# EAGLE library part RFM02A (library RFMxx)
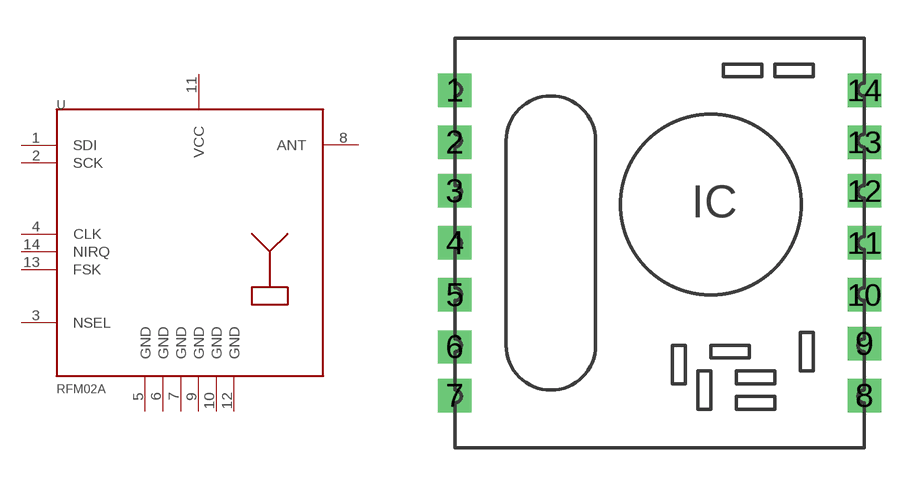
[diagram p4: symbol with the pads of RFM1; footprint RFM1]

Designator prefix -

## RFM02A  [RFM1]
1  SDI
2  SCK
3  NSEL
4  CLK
5  GND
6  GND  pwr
7  GND  pwr
8  ANT  out
9  GND
10  GND
11  VCC  pwr
12  GND
13  FSK
14  NIRQ

## Footprint RFM1 (pad centres in mm)
drill 0.8 square: 1 -7.62,5.08; 2 -7.62,3.048; 3 -7.62,1.143; 4 -7.62,-0.889; 5 -7.62,-2.921; 6 -7.62,-4.953; 7 -7.62,-6.858; 8 8.382,-6.858; 9 8.382,-4.826; 10 8.382,-2.921; 11 8.382,-0.889; 12 8.382,1.143; 13 8.382,3.048; 14 8.382,5.08